# Altium schematic symbol library TEST.SCHLIB: 20 symbols
Pins are listed as number, name and electrical type; pins without a type are passive.

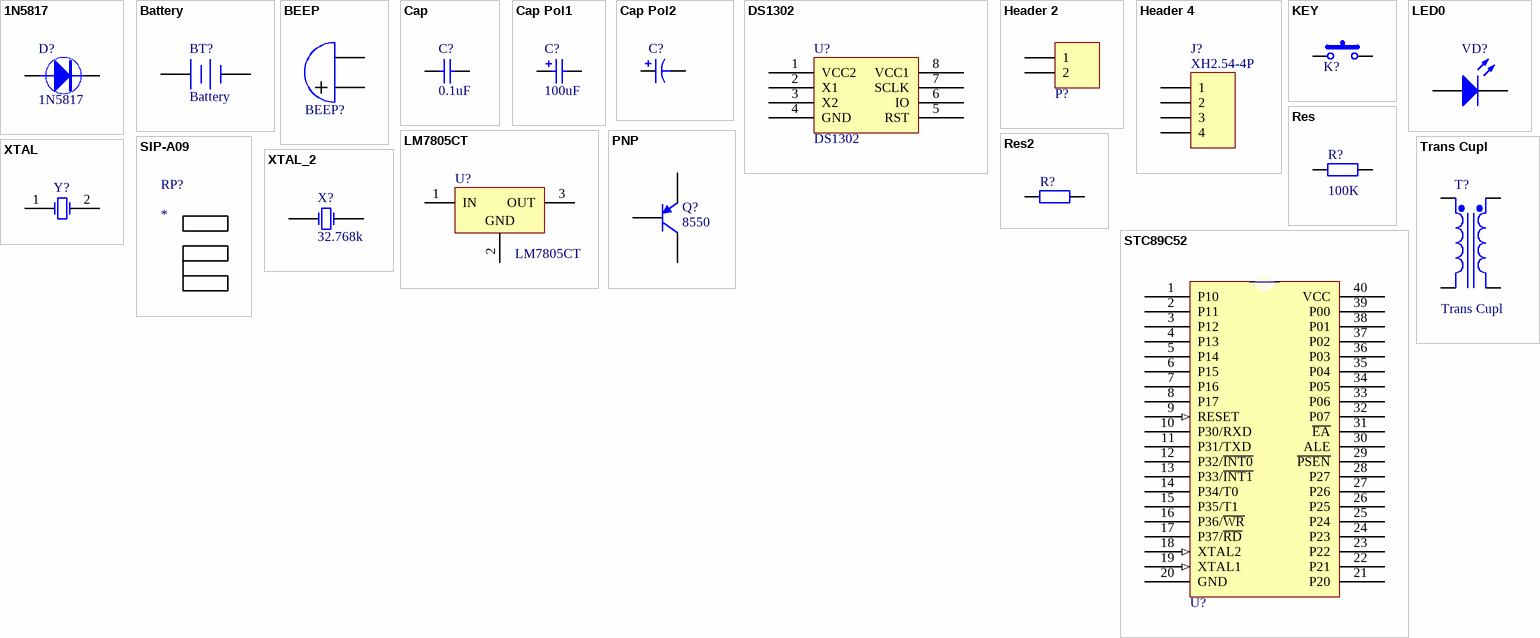
[diagram p0: symbols 1N5817 to XTAL_2]

## 1N5817
designator D?
普通二极管
footprint DO-15
pins: A, K

## Battery
designator BT?
footprint BT
pins: 1 +, 2 -

## BEEP
designator BEEP?  (value not drawn)
footprint BEEP
pins: 1, 2

## Cap
designator C?  value 0.1uF  (hidden comment: Cap)
Capacitor; Published: 8-Jun-2000; LatestRevisionDate: 17-Jul-2002; LatestRevisionNote: Re-released for DXP Platform.; PackageReference: RAD-0.3; Publisher: Altium Limited
pins: 1, 2

## Cap Pol1
designator C?  value 100uF  (hidden comment: Cap Pol1)
Polarized Capacitor (Radial); Published: 8-Jun-2000; LatestRevisionDate: 17-Jul-2002; LatestRevisionNote: Re-released for DXP Platform.; PackageReference: RB7.6-15; Publisher: Altium Limited
pins: 1, 2
1 alternate drawing of the same symbol

## Cap Pol2
designator C?, comment 10μF  (value not drawn)
Polarized Capacitor (Axial); Published: 8-Jun-2000; LatestRevisionDate: 17-Jul-2002; LatestRevisionNote: Re-released for DXP Platform.; PackageReference: POLAR0.8; Publisher: Altium Limited; PackageDescription: Polarized Capacitor; 2 Leads; Value: 10μF
pins: 1, 2
1 alternate drawing of the same symbol

## DS1302
designator U?
pins: 1 VCC2, 2 X1, 3 X2, 4 GND, 5 RST, 6 IO, 7 SCLK, 8 VCC1

## Header 2
designator P?  (value not drawn)
Header, 2-Pin; LatestRevisionDate: 17-Jul-2002; LatestRevisionNote: Re-released for DXP Platform.; Publisher: Altium Limited
pins: 1, 2

## Header 4
designator J?, comment XH2.54-4P
Header, 4-Pin; LatestRevisionDate: 17-Jul-2002; LatestRevisionNote: Re-released for DXP Platform.; Publisher: Altium Limited
pins: 1, 2, 3, 4

## KEY
designator K?  (value not drawn)
Switch; Published: 24-Mar-1999; LatestRevisionDate: 17-Jul-2002; LatestRevisionNote: Re-released for DXP Platform.; PackageReference: SPST-2; Publisher: Altium Limited
pins: 1, 2

## LED0
designator VD?, comment BT101  (value not drawn)
Typical INFRARED GaAs LED; Published: 8-Jun-2000; LatestRevisionDate: 08-Jul-2005; LatestRevisionNote: Mech Layer 1 removed.; PackageReference: LED-0; Publisher: Altium Limited; PackageDescription: LED; 2 Leads
pins: 1 A, 2 K

## LM7805CT
designator U?
Series 3-Terminal Positive Regulator; Note: Tab is connected to GND; Published: 15-Apr-2002; DatasheetVersion: May-1999; PackageVersion: 1995; PackageReference: T03B; Publisher: Altium Limited; PackageDescription: TO, Thru-Hole, Vertical, Heatsink Mounted; 3 In-Line Leads; Pitch 2.54 mm; ComponentLink1Description: Manufacturer Link; ComponentLink1URL: http://www.national.com/; ComponentLink2Description: Datasheet; ComponentLink2URL: http://www.national.com/ds.cgi/LM/LM7512C.pdf; ComponentLink3Description: URL Link1; ComponentLink3URL: http://www.national.com/pf/LM/LM7805C.html
pins: 1 IN (power), 2 GND (power), 3 OUT (power)

## PNP
designator Q?, comment 8550
pins: 1 E, 2 B, 3 C

## Res
designator R?, comment 100K
pins: 1, 2

## Res2
designator R?, comment 10K  (value not drawn)
Resistor; Published: 8-Jun-2000; LatestRevisionDate: 17-Jul-2002; LatestRevisionNote: Re-released for DXP Platform.; PackageReference: AXIAL-0.4; Publisher: Altium Limited; PackageDescription: Axial Device, Thru-Hole; 2 Leads; 0.4 in Pin Spacing; Value: 10K
pins: 1, 2

## SIP-A09
designator RP?

## STC89C52
designator U?  (value not drawn)
footprint DIP40
pins: 1 P10, 2 P11, 3 P12, 4 P13, 5 P14, 6 P15, 7 P16, 8 P17, 9 RESET (in), 10 P30/RXD, 11 P31/TXD, 12 P32/~{INT0}, 13 P33/~{INT1}, 14 P34/T0, 15 P35/T1, 16 P36/~{WR}, 17 P37/~{RD}, 18 XTAL2 (in), 19 XTAL1 (in), 20 GND, 21 P20, 22 P21, 23 P22, 24 P23, 25 P24, 26 P25, 27 P26, 28 P27, 29 ~{PSEN}, 30 ALE, 31 ~{EA}, 32 P07, 33 P06, 34 P05, 35 P04, 36 P03, 37 P02, 38 P01, 39 P00, 40 VCC

## Trans Cupl
designator T?
Transformer (Coupled Inductor Model); Published: 8-Jun-2000; LatestRevisionDate: 17-Jul-2002; LatestRevisionNote: Re-released for DXP Platform.; PackageReference: TRF_4; Publisher: Altium Limited
pins: 1 Pri+, 2 Pri-, 3 Sec+, 4 Sec-

## XTAL
designator Y?, comment 12MHZ  (value not drawn)
Crystal Oscillator; Published: 8-Jun-2000; LatestRevisionDate: 17-Jul-2002; LatestRevisionNote: Re-released for DXP Platform.; PackageReference: R38; Publisher: Altium Limited; PackageDescription: Crystal, Thru-Hole; 2 Leads; Body 3.1 x 8.2 mm (Dia.xH)
pins: 1 OSC1, 2 OSC2

## XTAL_2
designator X?, comment 32.768k
pins: 1 OSC1, 2 OSC2